# Altium integrated library Silicon Labs Clocks and Oscillators.IntLib: 678 symbols (part 25 of 45)
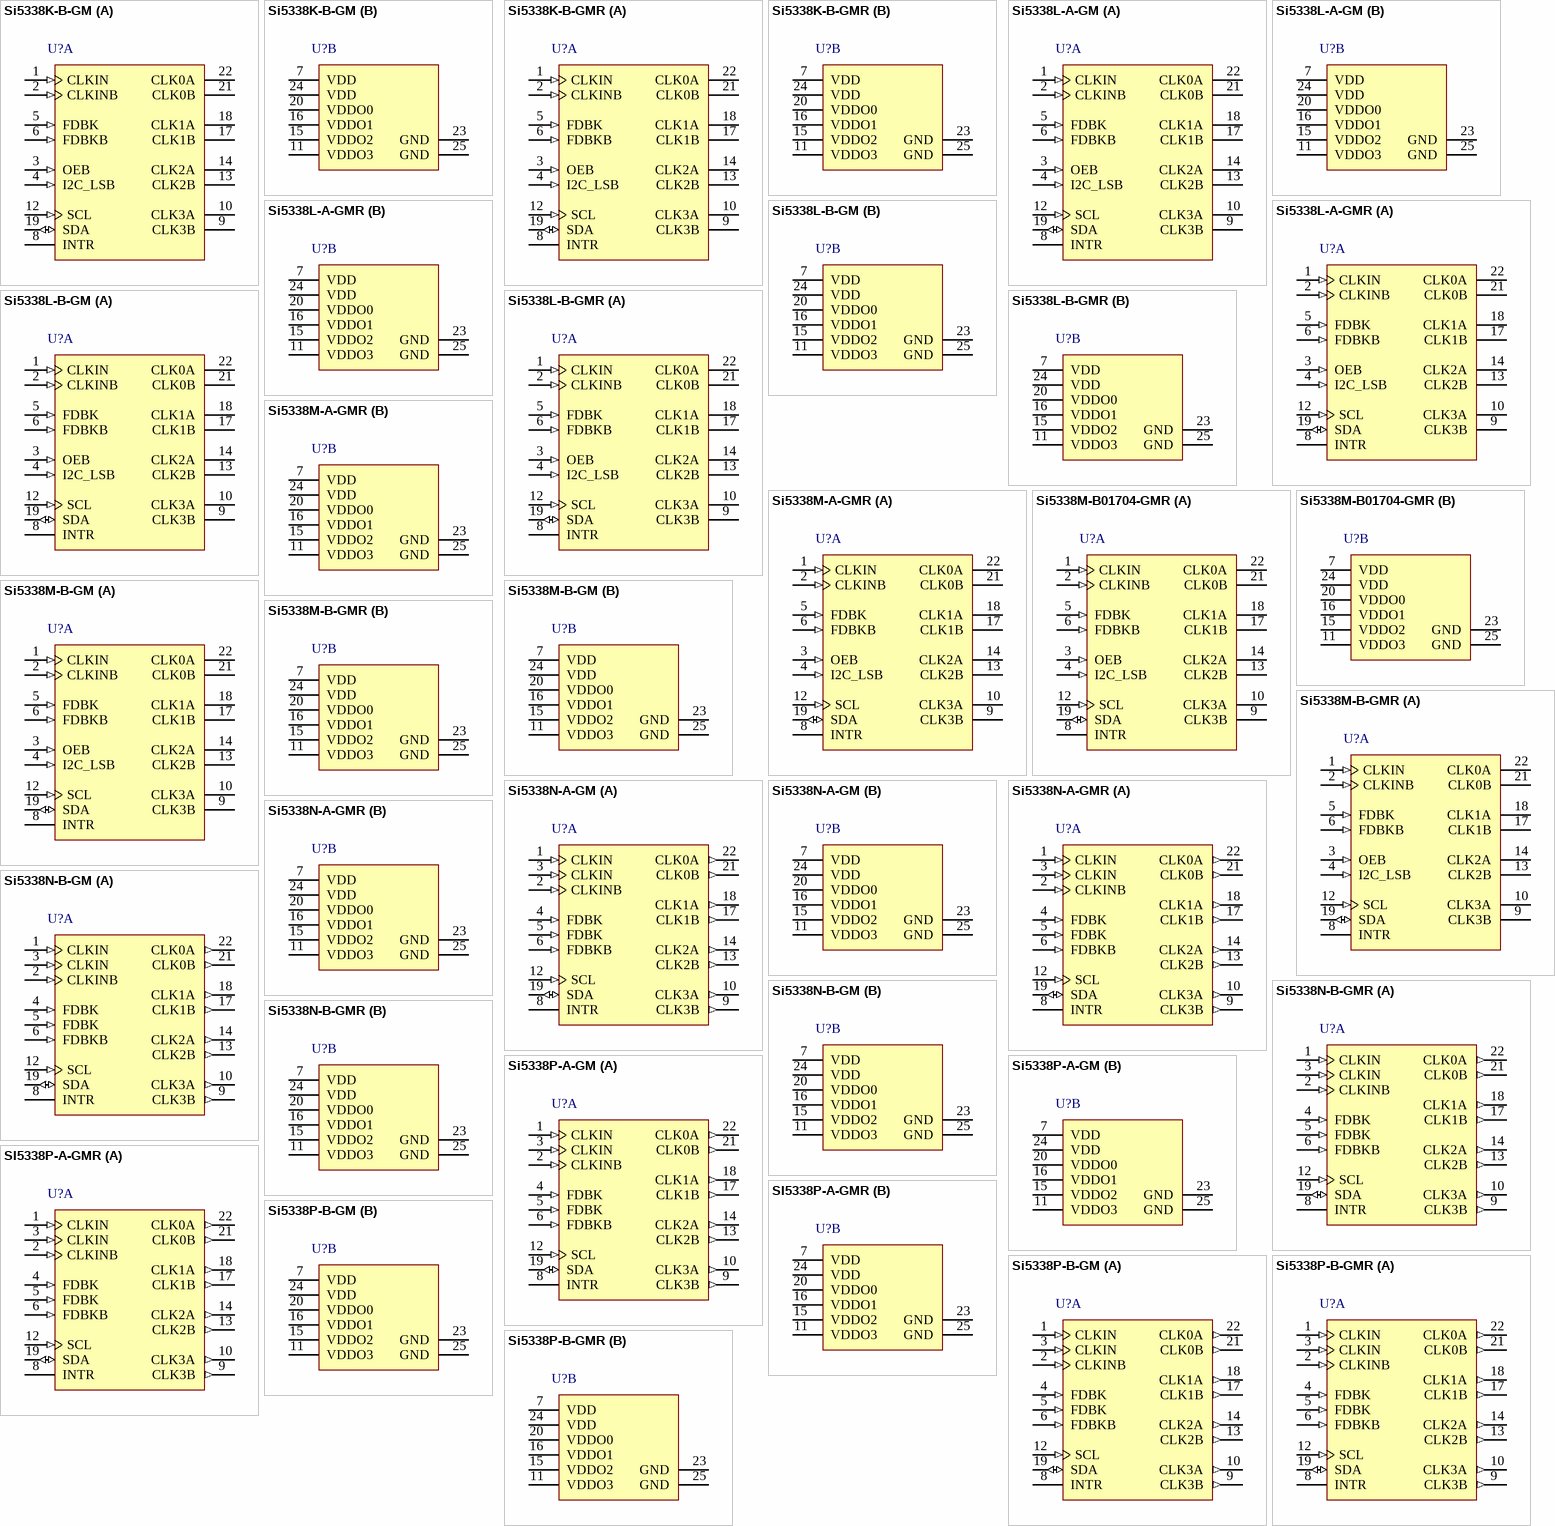
[diagram p68: symbols Si5338K-B-GM to Si5338P-B-GMR]

## Si5338P-B-GMR
designator U?
I2C-Programmable Any-Frequency, Any-Output Quad Clock Generator, 1.8 / 2.5 / 3.3 V, 0.16 to 350 MHz Output, -40 to 85 degC, 24-pin QFN, Tape and Reel; Manufacturer: Silicon Labs; PartNumber: Si5338P-B-GMR; Output Format: LVPECL; LVDS; LVCMOS; HCSL; SSTL; HSTL; Phase Jitter (RMS): 0.7 ps; Reference Inputs: 1; VDD: 1.8 V; 2.5 V; 3.3 V; Sub-Family: Clock Generators part2; DatasheetVersion: Rev. 1.3; PackageReference: QFN-24; PackageDescription: 24-Pin Quad-Flat No-Leads Package, Body 4 x 4 mm, Pitch 0.5 mm; Supplier 1: Digi-Key; Supplier Part Number 1: SI5338P-B-GMR-ND; Supplier 2: Mouser; Supplier Part Number 2: 634-SI5338P-B-GMR; Output Frequency (MHz): 0.16 to 350; Packing: Tape and Reel; Mounting Technology: Surface Mount; Code_JEDEC: MO-220; Code_IPC: J-STD-020; ComponentLink1Description: Manufacturer URL; ComponentLink1URL: http://www.silabs.com/; ComponentLink2Description: Datasheet; ComponentLink2URL: http://www.silabs.com/Support%20Documents/TechnicalDocs/Si5338.pdf; ComponentLink3Description: Package Specification; ComponentLink3URL: http://www.silabs.com/Support%20Documents/TechnicalDocs/Si5330.pdf
footprint SLAB-QFN-24-2500x2500TP_N (QFN, 24-Leads, Body 4x4mm, Pitch 0.5mm, Thermal Pad 2.5x2.5mm, IPC Medium Density)
footprint SLAB-QFN-24-2500x2500TP_L (QFN, 24-Leads, Body 4x4mm, Pitch 0.5mm, Thermal Pad 2.5x2.5mm, IPC High Density)
footprint SLAB-QFN-24-2500x2500TP_M (QFN, 24-Leads, Body 4x4mm, Pitch 0.5mm, Thermal Pad 2.5x2.5mm, IPC Low Density)
part A pins: 1 CLKIN (in) "These pins are used as the main differential clock input or as the XTAL input. See 3.2. Input Stage on page 18, Figure 3 and Figure 4, for connection details. Clock inputs to these pins must be ac-coupled. Keep the traces (See Datasheet)", 2 CLKINB (in) "These pins are used as the main differential clock input or as the XTAL input. See 3.2. Input Stage on page 18, Figure 3 and Figure 4, for connection details. Clock inputs to these pins must be ac-coupled. Keep the traces (See Datasheet)", 3 CLKIN (in) "CLKIN (for Si5338A/B/C and Si5338N/P/Q devices only) Provides a high-impedance clock input for single ended clock signals. This input should be dc-coupled as shown in “3.2. Input Stage”, Figure 3.", 4 FDBK (in) "FDBK (for Si5338N/P/Q devices only) Provides a high-impedance feedback input for single-ended clock signals. This input should be dc-coupled as shown in “3.2. Input Stage”, Figure 3. If this pin is not used, it should(See Datasheet)", 5 FDBK (in) "These pins can be used as a differential feedback input in zero delay mode or as a secondary clock input. See section 3.2, Figure 3, for termination details. See "3.10.6. Zero-Delay Mode" on page 27 for zero delay mode (See Datasheet)", 6 FDBKB (in) "These pins can be used as a differential feedback input in zero delay mode or as a secondary clock input. See section 3.2, Figure 3, for termination details. See "3.10.6. Zero-Delay Mode" on page 27 for zero delay mode (See Datasheet)", 8 INTR (oc) "Interrupt.", 9 CLK3B (out) "Output Clock B for Channel 3.", 10 CLK3A (out) "Output Clock A for Channel 3.", 12 SCL (in) "I2C Serial Clock Input", 13 CLK2B (out) "Output Clock B for Channel 2.", 14 CLK2A (out) "Output Clock A for Channel 2.", 17 CLK1B (out) "Output Clock B for Channel 1.", 18 CLK1A (out) "Output Clock A for Channel 1.", 19 SDA (io) "I2C Serial Data.", 21 CLK0B (out) "Output Clock B for Channel 0.", 22 CLK0A (out) "Output ClockA for Channel 0."
part B pins: 7 VDD (power) "Core Supply Voltage.", 11 VDDO3 (power) "Output Clock Supply Voltage.", 15 VDDO2 (power) "Output Clock Supply Voltage", 16 VDDO1 (power) "Output Clock Supply Voltage", 20 VDDO0 (power) "Output Clock Supply Voltage.", 23 GND (power) "Ground.", 24 VDD (power) "Core Supply Voltage.", 25 GND (power) "Ground Pad"

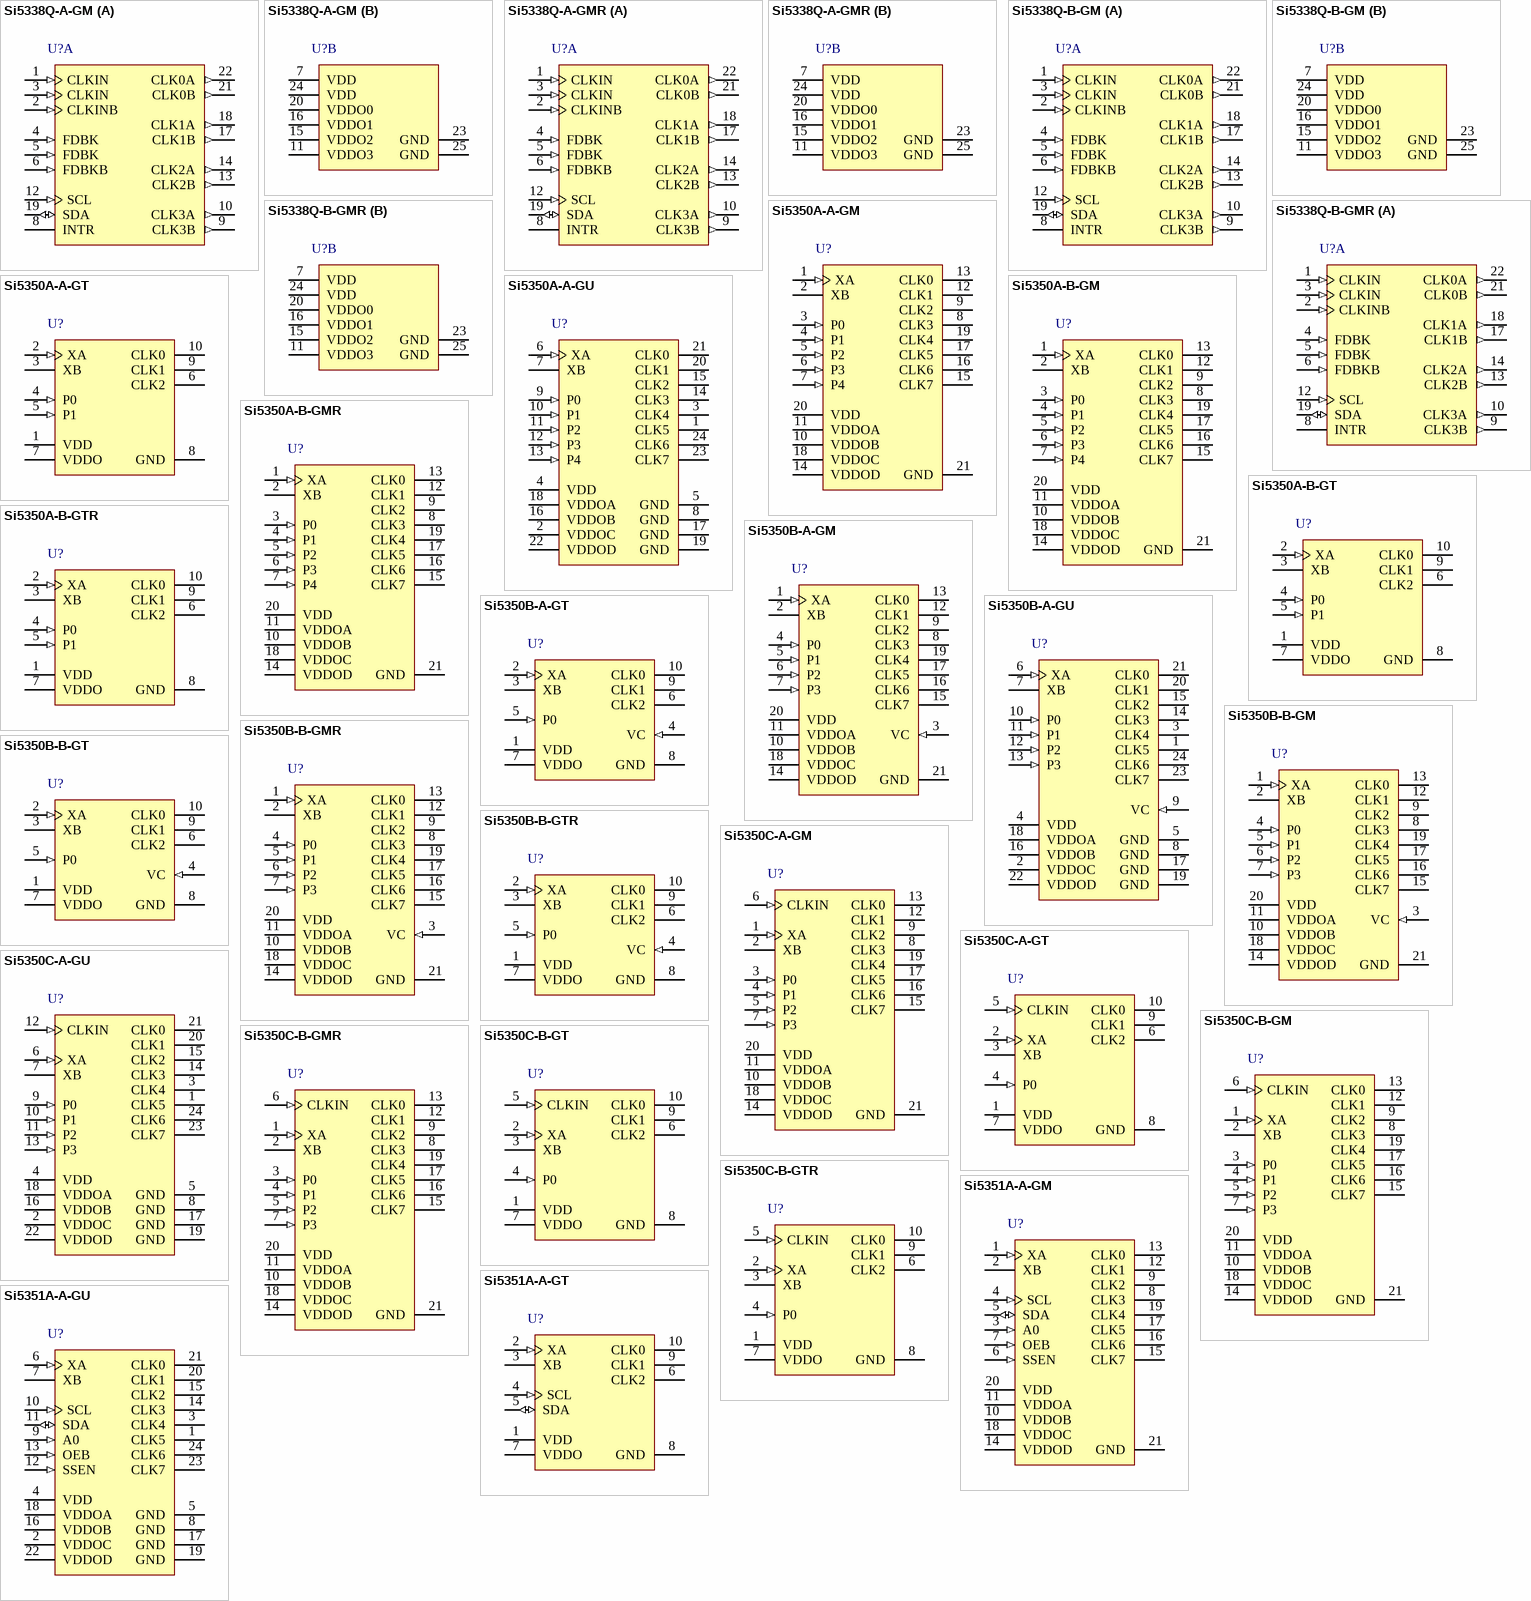
[diagram p25: symbols Si5338Q-A-GM to Si5351A-A-GU]

## Si5338Q-A-GM
designator U?
I2C-Programmable Any-Frequency, Any-Output Quad Clock Generator, 1.8 / 2.5 / 3.3 V, 0.16 to 200 MHz Output, -40 to 85 degC, 24-pin QFN; Manufacturer: Silicon Labs; PartNumber: Si5338Q-A-GM; Output Format: LVPECL; LVDS; LVCMOS; HCSL; SSTL; HSTL; Reference Inputs: 1; VDD: 1.8 V; 2.5 V; 3.3 V; Sub-Family: Clock Generators part2; DatasheetVersion: Rev. 1.3; PackageReference: QFN-24; PackageDescription: 24-Pin Quad-Flat No-Leads Package, Body 4 x 4 mm, Pitch 0.5 mm; Supplier 1: Digi-Key; Supplier Part Number 1: SI5338Q-A-GM-ND; Supplier 2: Mouser; Supplier Part Number 2: 634-SI5338Q-A-GM; Output Frequency (MHz): 0.16 to 200; Mounting Technology: Surface Mount; Code_JEDEC: MO-220; Code_IPC: J-STD-020; ComponentLink1Description: Manufacturer URL; ComponentLink1URL: http://www.silabs.com/; ComponentLink2Description: Datasheet; ComponentLink2URL: http://www.silabs.com/Support%20Documents/TechnicalDocs/Si5338.pdf; ComponentLink3Description: Package Specification; ComponentLink3URL: http://www.silabs.com/Support%20Documents/TechnicalDocs/Si5330.pdf
footprint SLAB-QFN-24-2500x2500TP_N (QFN, 24-Leads, Body 4x4mm, Pitch 0.5mm, Thermal Pad 2.5x2.5mm, IPC Medium Density)
footprint SLAB-QFN-24-2500x2500TP_L (QFN, 24-Leads, Body 4x4mm, Pitch 0.5mm, Thermal Pad 2.5x2.5mm, IPC High Density)
footprint SLAB-QFN-24-2500x2500TP_M (QFN, 24-Leads, Body 4x4mm, Pitch 0.5mm, Thermal Pad 2.5x2.5mm, IPC Low Density)
part A pins: 1 CLKIN (in) "These pins are used as the main differential clock input or as the XTAL input. See 3.2. Input Stage on page 18, Figure 3 and Figure 4, for connection details. Clock inputs to these pins must be ac-coupled. Keep the traces (See Datasheet)", 2 CLKINB (in) "These pins are used as the main differential clock input or as the XTAL input. See 3.2. Input Stage on page 18, Figure 3 and Figure 4, for connection details. Clock inputs to these pins must be ac-coupled. Keep the traces (See Datasheet)", 3 CLKIN (in) "CLKIN (for Si5338A/B/C and Si5338N/P/Q devices only) Provides a high-impedance clock input for single ended clock signals. This input should be dc-coupled as shown in “3.2. Input Stage”, Figure 3.", 4 FDBK (in) "FDBK (for Si5338N/P/Q devices only) Provides a high-impedance feedback input for single-ended clock signals. This input should be dc-coupled as shown in “3.2. Input Stage”, Figure 3. If this pin is not used, it should(See Datasheet)", 5 FDBK (in) "These pins can be used as a differential feedback input in zero delay mode or as a secondary clock input. See section 3.2, Figure 3, for termination details. See "3.10.6. Zero-Delay Mode" on page 27 for zero delay mode (See Datasheet)", 6 FDBKB (in) "These pins can be used as a differential feedback input in zero delay mode or as a secondary clock input. See section 3.2, Figure 3, for termination details. See "3.10.6. Zero-Delay Mode" on page 27 for zero delay mode (See Datasheet)", 8 INTR (oc) "Interrupt.", 9 CLK3B (out) "Output Clock B for Channel 3.", 10 CLK3A (out) "Output Clock A for Channel 3.", 12 SCL (in) "I2C Serial Clock Input", 13 CLK2B (out) "Output Clock B for Channel 2.", 14 CLK2A (out) "Output Clock A for Channel 2.", 17 CLK1B (out) "Output Clock B for Channel 1.", 18 CLK1A (out) "Output Clock A for Channel 1.", 19 SDA (io) "I2C Serial Data.", 21 CLK0B (out) "Output Clock B for Channel 0.", 22 CLK0A (out) "Output ClockA for Channel 0."
part B pins: 7 VDD (power) "Core Supply Voltage.", 11 VDDO3 (power) "Output Clock Supply Voltage.", 15 VDDO2 (power) "Output Clock Supply Voltage", 16 VDDO1 (power) "Output Clock Supply Voltage", 20 VDDO0 (power) "Output Clock Supply Voltage.", 23 GND (power) "Ground.", 24 VDD (power) "Core Supply Voltage.", 25 GND (power) "Ground Pad"

## Si5338Q-A-GMR
designator U?
I2C-Programmable Any-Frequency, Any-Output Quad Clock Generator, 1.8 / 2.5 / 3.3 V, 0.16 to 200 MHz Output, -40 to 85 degC, 24-pin QFN, Tape and Reel; Manufacturer: Silicon Labs; PartNumber: Si5338Q-A-GMR; Output Format: LVPECL; LVDS; LVCMOS; HCSL; SSTL; HSTL; Phase Jitter (RMS): 0.7 ps; Reference Inputs: 1; VDD: 1.8 V; 2.5 V; 3.3 V; Sub-Family: Clock Generators part2; DatasheetVersion: Rev. 1.3; PackageReference: QFN-24; PackageDescription: 24-Pin Quad-Flat No-Leads Package, Body 4 x 4 mm, Pitch 0.5 mm; Supplier 1: Mouser; Supplier Part Number 1: 634-SI5338Q-A-GMR; Output Frequency (MHz): 0.16 to 200; Packing: Tape and Reel; Mounting Technology: Surface Mount; Code_JEDEC: MO-220; Code_IPC: J-STD-020; ComponentLink1Description: Manufacturer URL; ComponentLink1URL: http://www.silabs.com/; ComponentLink2Description: Datasheet; ComponentLink2URL: http://www.silabs.com/Support%20Documents/TechnicalDocs/Si5338.pdf; ComponentLink3Description: Package Specification; ComponentLink3URL: http://www.silabs.com/Support%20Documents/TechnicalDocs/Si5330.pdf
footprint SLAB-QFN-24-2500x2500TP_N (QFN, 24-Leads, Body 4x4mm, Pitch 0.5mm, Thermal Pad 2.5x2.5mm, IPC Medium Density)
footprint SLAB-QFN-24-2500x2500TP_L (QFN, 24-Leads, Body 4x4mm, Pitch 0.5mm, Thermal Pad 2.5x2.5mm, IPC High Density)
footprint SLAB-QFN-24-2500x2500TP_M (QFN, 24-Leads, Body 4x4mm, Pitch 0.5mm, Thermal Pad 2.5x2.5mm, IPC Low Density)
part A pins: 1 CLKIN (in) "These pins are used as the main differential clock input or as the XTAL input. See 3.2. Input Stage on page 18, Figure 3 and Figure 4, for connection details. Clock inputs to these pins must be ac-coupled. Keep the traces (See Datasheet)", 2 CLKINB (in) "These pins are used as the main differential clock input or as the XTAL input. See 3.2. Input Stage on page 18, Figure 3 and Figure 4, for connection details. Clock inputs to these pins must be ac-coupled. Keep the traces (See Datasheet)", 3 CLKIN (in) "CLKIN (for Si5338A/B/C and Si5338N/P/Q devices only) Provides a high-impedance clock input for single ended clock signals. This input should be dc-coupled as shown in “3.2. Input Stage”, Figure 3.", 4 FDBK (in) "FDBK (for Si5338N/P/Q devices only) Provides a high-impedance feedback input for single-ended clock signals. This input should be dc-coupled as shown in “3.2. Input Stage”, Figure 3. If this pin is not used, it should(See Datasheet)", 5 FDBK (in) "These pins can be used as a differential feedback input in zero delay mode or as a secondary clock input. See section 3.2, Figure 3, for termination details. See "3.10.6. Zero-Delay Mode" on page 27 for zero delay mode (See Datasheet)", 6 FDBKB (in) "These pins can be used as a differential feedback input in zero delay mode or as a secondary clock input. See section 3.2, Figure 3, for termination details. See "3.10.6. Zero-Delay Mode" on page 27 for zero delay mode (See Datasheet)", 8 INTR (oc) "Interrupt.", 9 CLK3B (out) "Output Clock B for Channel 3.", 10 CLK3A (out) "Output Clock A for Channel 3.", 12 SCL (in) "I2C Serial Clock Input", 13 CLK2B (out) "Output Clock B for Channel 2.", 14 CLK2A (out) "Output Clock A for Channel 2.", 17 CLK1B (out) "Output Clock B for Channel 1.", 18 CLK1A (out) "Output Clock A for Channel 1.", 19 SDA (io) "I2C Serial Data.", 21 CLK0B (out) "Output Clock B for Channel 0.", 22 CLK0A (out) "Output ClockA for Channel 0."
part B pins: 7 VDD (power) "Core Supply Voltage.", 11 VDDO3 (power) "Output Clock Supply Voltage.", 15 VDDO2 (power) "Output Clock Supply Voltage", 16 VDDO1 (power) "Output Clock Supply Voltage", 20 VDDO0 (power) "Output Clock Supply Voltage.", 23 GND (power) "Ground.", 24 VDD (power) "Core Supply Voltage.", 25 GND (power) "Ground Pad"

## Si5338Q-B-GM
designator U?
I2C-Programmable Any-Frequency, Any-Output Quad Clock Generator, 1.8 / 2.5 / 3.3 V, 0.16 to 200 MHz Output, -40 to 85 degC, 24-pin QFN; Manufacturer: Silicon Labs; PartNumber: Si5338Q-B-GM; Output Format: LVPECL; LVDS; LVCMOS; HCSL; SSTL; HSTL; Reference Inputs: 1; VDD: 1.8 V; 2.5 V; 3.3 V; Sub-Family: Clock Generators part2; DatasheetVersion: Rev. 1.3; PackageReference: QFN-24; PackageDescription: 24-Pin Quad-Flat No-Leads Package, Body 4 x 4 mm, Pitch 0.5 mm; Supplier 1: Digi-Key; Supplier Part Number 1: SI5338Q-B-GM-ND; Supplier 2: Mouser; Supplier Part Number 2: 634-SI5338Q-B-GM; Output Frequency (MHz): 0.16 to 200; Mounting Technology: Surface Mount; Code_JEDEC: MO-220; Code_IPC: J-STD-020; ComponentLink1Description: Manufacturer URL; ComponentLink1URL: http://www.silabs.com/; ComponentLink2Description: Datasheet; ComponentLink2URL: http://www.silabs.com/Support%20Documents/TechnicalDocs/Si5338.pdf; ComponentLink3Description: Package Specification; ComponentLink3URL: http://www.silabs.com/Support%20Documents/TechnicalDocs/Si5330.pdf
footprint SLAB-QFN-24-2500x2500TP_N (QFN, 24-Leads, Body 4x4mm, Pitch 0.5mm, Thermal Pad 2.5x2.5mm, IPC Medium Density)
footprint SLAB-QFN-24-2500x2500TP_L (QFN, 24-Leads, Body 4x4mm, Pitch 0.5mm, Thermal Pad 2.5x2.5mm, IPC High Density)
footprint SLAB-QFN-24-2500x2500TP_M (QFN, 24-Leads, Body 4x4mm, Pitch 0.5mm, Thermal Pad 2.5x2.5mm, IPC Low Density)
part A pins: 1 CLKIN (in) "These pins are used as the main differential clock input or as the XTAL input. See 3.2. Input Stage on page 18, Figure 3 and Figure 4, for connection details. Clock inputs to these pins must be ac-coupled. Keep the traces (See Datasheet)", 2 CLKINB (in) "These pins are used as the main differential clock input or as the XTAL input. See 3.2. Input Stage on page 18, Figure 3 and Figure 4, for connection details. Clock inputs to these pins must be ac-coupled. Keep the traces (See Datasheet)", 3 CLKIN (in) "CLKIN (for Si5338A/B/C and Si5338N/P/Q devices only) Provides a high-impedance clock input for single ended clock signals. This input should be dc-coupled as shown in “3.2. Input Stage”, Figure 3.", 4 FDBK (in) "FDBK (for Si5338N/P/Q devices only) Provides a high-impedance feedback input for single-ended clock signals. This input should be dc-coupled as shown in “3.2. Input Stage”, Figure 3. If this pin is not used, it should(See Datasheet)", 5 FDBK (in) "These pins can be used as a differential feedback input in zero delay mode or as a secondary clock input. See section 3.2, Figure 3, for termination details. See "3.10.6. Zero-Delay Mode" on page 27 for zero delay mode (See Datasheet)", 6 FDBKB (in) "These pins can be used as a differential feedback input in zero delay mode or as a secondary clock input. See section 3.2, Figure 3, for termination details. See "3.10.6. Zero-Delay Mode" on page 27 for zero delay mode (See Datasheet)", 8 INTR (oc) "Interrupt.", 9 CLK3B (out) "Output Clock B for Channel 3.", 10 CLK3A (out) "Output Clock A for Channel 3.", 12 SCL (in) "I2C Serial Clock Input", 13 CLK2B (out) "Output Clock B for Channel 2.", 14 CLK2A (out) "Output Clock A for Channel 2.", 17 CLK1B (out) "Output Clock B for Channel 1.", 18 CLK1A (out) "Output Clock A for Channel 1.", 19 SDA (io) "I2C Serial Data.", 21 CLK0B (out) "Output Clock B for Channel 0.", 22 CLK0A (out) "Output ClockA for Channel 0."
part B pins: 7 VDD (power) "Core Supply Voltage.", 11 VDDO3 (power) "Output Clock Supply Voltage.", 15 VDDO2 (power) "Output Clock Supply Voltage", 16 VDDO1 (power) "Output Clock Supply Voltage", 20 VDDO0 (power) "Output Clock Supply Voltage.", 23 GND (power) "Ground.", 24 VDD (power) "Core Supply Voltage.", 25 GND (power) "Ground Pad"

## Si5338Q-B-GMR
designator U?
I2C-Programmable Any-Frequency, Any-Output Quad Clock Generator, 1.8 / 2.5 / 3.3 V, 0.16 to 200 MHz Output, -40 to 85 degC, 24-pin QFN, Tape and Reel; Manufacturer: Silicon Labs; PartNumber: Si5338Q-B-GMR; Output Format: LVPECL; LVDS; LVCMOS; HCSL; SSTL; HSTL; Phase Jitter (RMS): 0.7 ps; Reference Inputs: 1; VDD: 1.8 V; 2.5 V; 3.3 V; Sub-Family: Clock Generators part2; DatasheetVersion: Rev. 1.3; PackageReference: QFN-24; PackageDescription: 24-Pin Quad-Flat No-Leads Package, Body 4 x 4 mm, Pitch 0.5 mm; Supplier 1: Digi-Key; Supplier Part Number 1: SI5338Q-B-GMR-ND; Supplier 2: Mouser; Supplier Part Number 2: 634-SI5338Q-B-GMR; Output Frequency (MHz): 0.16 to 200; Packing: Tape and Reel; Mounting Technology: Surface Mount; Code_JEDEC: MO-220; Code_IPC: J-STD-020; ComponentLink1Description: Manufacturer URL; ComponentLink1URL: http://www.silabs.com/; ComponentLink2Description: Datasheet; ComponentLink2URL: http://www.silabs.com/Support%20Documents/TechnicalDocs/Si5338.pdf; ComponentLink3Description: Package Specification; ComponentLink3URL: http://www.silabs.com/Support%20Documents/TechnicalDocs/Si5330.pdf
footprint SLAB-QFN-24-2500x2500TP_N (QFN, 24-Leads, Body 4x4mm, Pitch 0.5mm, Thermal Pad 2.5x2.5mm, IPC Medium Density)
footprint SLAB-QFN-24-2500x2500TP_L (QFN, 24-Leads, Body 4x4mm, Pitch 0.5mm, Thermal Pad 2.5x2.5mm, IPC High Density)
footprint SLAB-QFN-24-2500x2500TP_M (QFN, 24-Leads, Body 4x4mm, Pitch 0.5mm, Thermal Pad 2.5x2.5mm, IPC Low Density)
part A pins: 1 CLKIN (in) "These pins are used as the main differential clock input or as the XTAL input. See 3.2. Input Stage on page 18, Figure 3 and Figure 4, for connection details. Clock inputs to these pins must be ac-coupled. Keep the traces (See Datasheet)", 2 CLKINB (in) "These pins are used as the main differential clock input or as the XTAL input. See 3.2. Input Stage on page 18, Figure 3 and Figure 4, for connection details. Clock inputs to these pins must be ac-coupled. Keep the traces (See Datasheet)", 3 CLKIN (in) "CLKIN (for Si5338A/B/C and Si5338N/P/Q devices only) Provides a high-impedance clock input for single ended clock signals. This input should be dc-coupled as shown in “3.2. Input Stage”, Figure 3.", 4 FDBK (in) "FDBK (for Si5338N/P/Q devices only) Provides a high-impedance feedback input for single-ended clock signals. This input should be dc-coupled as shown in “3.2. Input Stage”, Figure 3. If this pin is not used, it should(See Datasheet)", 5 FDBK (in) "These pins can be used as a differential feedback input in zero delay mode or as a secondary clock input. See section 3.2, Figure 3, for termination details. See "3.10.6. Zero-Delay Mode" on page 27 for zero delay mode (See Datasheet)", 6 FDBKB (in) "These pins can be used as a differential feedback input in zero delay mode or as a secondary clock input. See section 3.2, Figure 3, for termination details. See "3.10.6. Zero-Delay Mode" on page 27 for zero delay mode (See Datasheet)", 8 INTR (oc) "Interrupt.", 9 CLK3B (out) "Output Clock B for Channel 3.", 10 CLK3A (out) "Output Clock A for Channel 3.", 12 SCL (in) "I2C Serial Clock Input", 13 CLK2B (out) "Output Clock B for Channel 2.", 14 CLK2A (out) "Output Clock A for Channel 2.", 17 CLK1B (out) "Output Clock B for Channel 1.", 18 CLK1A (out) "Output Clock A for Channel 1.", 19 SDA (io) "I2C Serial Data.", 21 CLK0B (out) "Output Clock B for Channel 0.", 22 CLK0A (out) "Output ClockA for Channel 0."
part B pins: 7 VDD (power) "Core Supply Voltage.", 11 VDDO3 (power) "Output Clock Supply Voltage.", 15 VDDO2 (power) "Output Clock Supply Voltage", 16 VDDO1 (power) "Output Clock Supply Voltage", 20 VDDO0 (power) "Output Clock Supply Voltage.", 23 GND (power) "Ground.", 24 VDD (power) "Core Supply Voltage.", 25 GND (power) "Ground Pad"

## Si5350A-A-GM
designator U?
Factory-Programmable Any-Frequency CMOS Clock Generator, 2.5 / 3.3 V, 0.008 to 160 MHz Output, -40 to 85 degC, 20-pin QFN; Manufacturer: Silicon Labs; PartNumber: Si5350A-A-GM; Output Format: LVCMOS; Reference Inputs: 1; VDD: 2.5 V; 3.3 V; Sub-Family: Clock Generators; DatasheetVersion: Rev. 0.9; PackageReference: QFN-20; PackageDescription: 20-Pin Quad-Flat No-Leads Package, Body 4 x 4 mm, Pitch 0.5 mm; Supplier 1: Digi-Key; Supplier Part Number 1: SI5350A-A-GM-ND; Supplier 2: Mouser; Supplier Part Number 2: 634-SI5350A-A-GM; Output Frequency (MHz): 0.008 to 160; Mounting Technology: Surface Mount; Code_JEDEC: MO-220; Code_IPC: J-STD-020; ComponentLink1Description: Manufacturer URL; ComponentLink1URL: http://www.silabs.com/; ComponentLink2Description: Datasheet; ComponentLink2URL: http://www.silabs.com/Support%20Documents/TechnicalDocs/Si5350A.pdf; ComponentLink3Description: Package Specification; ComponentLink3URL: http://www.silabs.com/Support%20Documents/TechnicalDocs/Si5351.pdf
footprint SLAB-QFN-20-2700x2700TP_A_N (QFN, 20-Leads, Body 4x4mm, Pitch 0.5mm, Thermal Pad 2.7x2.7mm, IPC Medium Density)
footprint SLAB-QFN-20-2700x2700TP_A_L (QFN, 20-Leads, Body 4x4mm, Pitch 0.5mm, Thermal Pad 2.7x2.7mm, IPC High Density)
footprint SLAB-QFN-20-2700x2700TP_A_M (QFN, 20-Leads, Body 4x4mm, Pitch 0.5mm, Thermal Pad 2.7x2.7mm, IPC Low Density)
pins: 1 XA (in) "Input pin for external XTAL", 2 XB "Input pin for external XTAL", 3 P0 (in) "User configurable input pin 0. See 4.4.5.", 4 P1 (in) "User configurable input pin 1. See 4.4.5.", 5 P2 (in) "User configurable input pin 2. See 4.4.5.", 6 P3 (in) "User configurable input pin 3. See 4.4.5.", 7 P4 (in) "User configurable input pin 4. See 4.4.5.", 8 CLK3 (hiz) "Output clock 3", 9 CLK2 (hiz) "Output clock 2", 10 VDDOB (power) "Output voltage supply pin for CLK2 and CLK3. See 4.4.2", 11 VDDOA (power) "Output voltage supply pin for CLK0 and CLK1. See 4.4.2", 12 CLK1 (hiz) "Output clock 1", 13 CLK0 (hiz) "Output clock 0", 14 VDDOD (power) "Output voltage supply pin for CLK6 and CLK7. See 4.4.2", 15 CLK7 (hiz) "Output clock 7", 16 CLK6 (hiz) "Output clock 6", 17 CLK5 (hiz) "Output clock 5", 18 VDDOC (power) "Output voltage supply pin for CLK4 and CLK5. See 4.4.2", 19 CLK4 (hiz) "Output clock 4", 20 VDD (power) "Core voltage supply pin. See 4.4.2", 21 GND (power) "Ground"

## Si5350A-A-GT
designator U?
Factory-Programmable Any-Frequency CMOS Clock Generator, 2.5 / 3.3 V, 0.008 to 160 MHz Output, -40 to 85 degC, 10-pin SOP; Manufacturer: Silicon Labs; PartNumber: Si5350A-A-GT; Output Format: LVCMOS; Reference Inputs: 1; VDD: 2.5 V; 3.3 V; Sub-Family: Clock Generators; DatasheetVersion: Rev. 0.9; PackageReference: MSOP-10; PackageDescription: 10-Pin Mini Small Outline Package, Body 3 x 3 mm, Pitch 0.5 mm; Supplier 1: Digi-Key; Supplier Part Number 1: SI5350A-A-GT-ND; Supplier 2: Mouser; Supplier Part Number 2: 634-SI5350A-A-GT; Output Frequency (MHz): 0.008 to 160; Mounting Technology: Surface Mount; Code_JEDEC: MO-187; Code_IPC: J-STD-020; ComponentLink1Description: Manufacturer URL; ComponentLink1URL: http://www.silabs.com/; ComponentLink2Description: Datasheet; ComponentLink2URL: http://www.silabs.com/Support%20Documents/TechnicalDocs/Si5350A.pdf; ComponentLink3Description: Package Specification; ComponentLink3URL: http://www.silabs.com/Support Documents/TechnicalDocs/C8051T60x.pdf
footprint SLAB-MSOP-10_N (SOP, 10-Leads, Body 3x3mm, Pitch 0.5mm, IPC Medium Density)
footprint SLAB-MSOP-10_L (SOP, 10-Leads, Body 3x3mm, Pitch 0.5mm, IPC High Density)
footprint SLAB-MSOP-10_M (SOP, 10-Leads, Body 3x3mm, Pitch 0.5mm, IPC Low Density)
pins: 1 VDD (power) "Core voltage supply pin. See 4.4.2", 2 XA (in) "Input pin for external XTAL", 3 XB "Input pin for external XTAL", 4 P0 (in) "User configurable input pin 0", 5 P1 (in) "User configurable input pin 1", 6 CLK2 (hiz) "Output clock 2", 7 VDDO (power) "Output clock voltage supply pin for CLK0, CLK1, and CLK2. See 4.4.2", 8 GND (power) "Ground", 9 CLK1 (hiz) "Output clock 1", 10 CLK0 (hiz) "Output clock 0"

## Si5350A-A-GU
designator U?
Factory-Programmable Any-Frequency CMOS Clock Generator, 2.5 / 3.3 V, 0.008 to 160 MHz Output, -40 to 85 degC, 20-pin SOP; Manufacturer: Silicon Labs; PartNumber: Si5350A-A-GU; Output Format: LVCMOS; Reference Inputs: 1; VDD: 2.5 V; 3.3 V; Sub-Family: Clock Generators; DatasheetVersion: Rev. 0.9; PackageReference: QSOP-24; PackageDescription: 24-Pin Quarter-Size Small-Outline Package, Body 8.65 x 3.9 mm, Pitch 0.635 mm; Supplier 1: Digi-Key; Supplier Part Number 1: SI5350A-A-GU-ND; Supplier 2: Mouser; Supplier Part Number 2: 634-SI5350A-A-GU; Output Frequency (MHz): 0.008 to 160; Mounting Technology: Surface Mount; Code_JEDEC: MO-147; Code_IPC: J-STD-020; ComponentLink1Description: Manufacturer URL; ComponentLink1URL: http://www.silabs.com/; ComponentLink2Description: Datasheet; ComponentLink2URL: http://www.silabs.com/Support%20Documents/TechnicalDocs/Si5350A.pdf; ComponentLink3Description: Package Specification; ComponentLink3URL: http://www.silabs.com/Support%20Documents/TechnicalDocs/C8051F99x.pdf
footprint SLAB-QSOP-24_N (SOP, 24-Leads, Body 8.65x3.9mm, Pitch 0.635mm, IPC Medium Density)
footprint SLAB-QSOP-24_L (SOP, 24-Leads, Body 8.65x3.9mm, Pitch 0.635mm, IPC High Density)
footprint SLAB-QSOP-24_M (SOP, 24-Leads, Body 8.65x3.9mm, Pitch 0.635mm, IPC Low Density)
pins: 1 CLK5 (hiz) "Output clock 5", 2 VDDOC (power) "Output voltage supply pin for CLK4 and CLK5. See 4.4.2", 3 CLK4 (hiz) "Output clock 4", 4 VDD (power) "Core voltage supply pin. See 4.4.2", 5 GND (power) "Ground", 6 XA (in) "Input pin for external XTAL", 7 XB "Input pin for external XTAL", 8 GND (power) "Ground", 9 P0 (in) "User configurable input pin 0. See 4.4.5.", 10 P1 (in) "User configurable input pin 1. See 4.4.5.", 11 P2 (in) "User configurable input pin 2. See 4.4.5.", 12 P3 (in) "User configurable input pin 3. See 4.4.5.", 13 P4 (in) "User configurable input pin 4. See 4.4.5.", 14 CLK3 (hiz) "Output clock 3", 15 CLK2 (hiz) "Output clock 2", 16 VDDOB (power) "Output voltage supply pin for CLK2 and CLK3. See 4.4.2", 17 GND (power) "Ground", 18 VDDOA (power) "Output voltage supply pin for CLK0 and CLK1. See 4.4.2", 19 GND (power) "Ground", 20 CLK1 (hiz) "Output clock 1", 21 CLK0 (hiz) "Output clock 0", 22 VDDOD (power) "Output voltage supply pin for CLK6 and CLK7. See 4.4.2", 23 CLK7 (hiz) "Output clock 7", 24 CLK6 (hiz) "Output clock 6"

## Si5350A-B-GM
designator U?
Web-Customizable Any-Frequency CMOS Clock Generator, 2.5 / 3.3 V, 0.008 to 160 MHz Output, -40 to 85 degC, 20-pin QFN; Manufacturer: Silicon Labs; PartNumber: Si5350A-B-GM; Output Format: LVCMOS; Reference Inputs: 1; VDD: 2.5 V; 3.3 V; Sub-Family: Clock Generators; DatasheetVersion: Rev. 0.75; PackageReference: QFN-20; PackageDescription: 20-Pin Quad-Flat No-Leads Package, Body 4 x 4 mm, Pitch 0.5 mm; Output Frequency (MHz): 0.008 to 160; Mounting Technology: Surface Mount; Code_JEDEC: MO-220; Code_IPC: J-STD-020; ComponentLink1Description: Manufacturer URL; ComponentLink1URL: http://www.silabs.com/; ComponentLink2Description: Datasheet; ComponentLink2URL: http://www.silabs.com/Support%20Documents/TechnicalDocs/Si5350A-B.pdf; ComponentLink3Description: Package Specification; ComponentLink3URL: http://www.silabs.com/Support%20Documents/TechnicalDocs/Si5351.pdf
footprint SLAB-QFN-20-2700x2700TP_A_N (QFN, 20-Leads, Body 4x4mm, Pitch 0.5mm, Thermal Pad 2.7x2.7mm, IPC Medium Density)
footprint SLAB-QFN-20-2700x2700TP_A_L (QFN, 20-Leads, Body 4x4mm, Pitch 0.5mm, Thermal Pad 2.7x2.7mm, IPC High Density)
footprint SLAB-QFN-20-2700x2700TP_A_M (QFN, 20-Leads, Body 4x4mm, Pitch 0.5mm, Thermal Pad 2.7x2.7mm, IPC Low Density)
pins: 1 XA (in) "Input pin for external XTAL", 2 XB "Input pin for external XTAL", 3 P0 (in) "User configurable input pin 0. See 4.4.5.", 4 P1 (in) "User configurable input pin 1. See 4.4.5.", 5 P2 (in) "User configurable input pin 2. See 4.4.5.", 6 P3 (in) "User configurable input pin 3. See 4.4.5.", 7 P4 (in) "User configurable input pin 4. See 4.4.5.", 8 CLK3 (hiz) "Output clock 3", 9 CLK2 (hiz) "Output clock 2", 10 VDDOB (power) "Output voltage supply pin for CLK2 and CLK3. See 4.4.2", 11 VDDOA (power) "Output voltage supply pin for CLK0 and CLK1. See 4.4.2", 12 CLK1 (hiz) "Output clock 1", 13 CLK0 (hiz) "Output clock 0", 14 VDDOD (power) "Output voltage supply pin for CLK6 and CLK7. See 4.4.2", 15 CLK7 (hiz) "Output clock 7", 16 CLK6 (hiz) "Output clock 6", 17 CLK5 (hiz) "Output clock 5", 18 VDDOC (power) "Output voltage supply pin for CLK4 and CLK5. See 4.4.2", 19 CLK4 (hiz) "Output clock 4", 20 VDD (power) "Core voltage supply pin. See 4.4.2", 21 GND (power) "Ground"

## Si5350A-B-GMR
designator U?
Web-Customizable Any-Frequency CMOS Clock Generator, 2.5 / 3.3 V, 0.008 to 160 MHz Output, -40 to 85 degC, 20-pin QFN, Tape and Reel; Manufacturer: Silicon Labs; PartNumber: Si5350A-B-GMR; Output Format: LVCMOS; Phase Jitter (RMS): 100 ps; Reference Inputs: 1; VDD: 2.5 V; 3.3 V; Sub-Family: Clock Generators; DatasheetVersion: Rev. 0.75; PackageReference: QFN-20; PackageDescription: 20-Pin Quad-Flat No-Leads Package, Body 4 x 4 mm, Pitch 0.5 mm; Output Frequency (MHz): 0.008 to 160; Packing: Tape and Reel; Mounting Technology: Surface Mount; Code_JEDEC: MO-220; Code_IPC: J-STD-020; ComponentLink1Description: Manufacturer URL; ComponentLink1URL: http://www.silabs.com/; ComponentLink2Description: Datasheet; ComponentLink2URL: http://www.silabs.com/Support%20Documents/TechnicalDocs/Si5350A-B.pdf; ComponentLink3Description: Package Specification; ComponentLink3URL: http://www.silabs.com/Support%20Documents/TechnicalDocs/Si5351.pdf
footprint SLAB-QFN-20-2700x2700TP_A_N (QFN, 20-Leads, Body 4x4mm, Pitch 0.5mm, Thermal Pad 2.7x2.7mm, IPC Medium Density)
footprint SLAB-QFN-20-2700x2700TP_A_L (QFN, 20-Leads, Body 4x4mm, Pitch 0.5mm, Thermal Pad 2.7x2.7mm, IPC High Density)
footprint SLAB-QFN-20-2700x2700TP_A_M (QFN, 20-Leads, Body 4x4mm, Pitch 0.5mm, Thermal Pad 2.7x2.7mm, IPC Low Density)
pins: 1 XA (in) "Input pin for external XTAL", 2 XB "Input pin for external XTAL", 3 P0 (in) "User configurable input pin 0. See 4.4.5.", 4 P1 (in) "User configurable input pin 1. See 4.4.5.", 5 P2 (in) "User configurable input pin 2. See 4.4.5.", 6 P3 (in) "User configurable input pin 3. See 4.4.5.", 7 P4 (in) "User configurable input pin 4. See 4.4.5.", 8 CLK3 (hiz) "Output clock 3", 9 CLK2 (hiz) "Output clock 2", 10 VDDOB (power) "Output voltage supply pin for CLK2 and CLK3. See 4.4.2", 11 VDDOA (power) "Output voltage supply pin for CLK0 and CLK1. See 4.4.2", 12 CLK1 (hiz) "Output clock 1", 13 CLK0 (hiz) "Output clock 0", 14 VDDOD (power) "Output voltage supply pin for CLK6 and CLK7. See 4.4.2", 15 CLK7 (hiz) "Output clock 7", 16 CLK6 (hiz) "Output clock 6", 17 CLK5 (hiz) "Output clock 5", 18 VDDOC (power) "Output voltage supply pin for CLK4 and CLK5. See 4.4.2", 19 CLK4 (hiz) "Output clock 4", 20 VDD (power) "Core voltage supply pin. See 4.4.2", 21 GND (power) "Ground"

## Si5350A-B-GT
designator U?
Web-Customizable Any-Frequency CMOS Clock Generator, 2.5 / 3.3 V, 0.008 to 160 MHz Output, -40 to 85 degC, 10-pin SOP; Manufacturer: Silicon Labs; PartNumber: Si5350A-B-GT; Output Format: LVCMOS; Reference Inputs: 1; VDD: 2.5 V; 3.3 V; Sub-Family: Clock Generators; DatasheetVersion: Rev. 0.75; PackageReference: MSOP-10; PackageDescription: 10-Pin Mini Small Outline Package, Body 3 x 3 mm, Pitch 0.5 mm; Output Frequency (MHz): 0.008 to 160; Mounting Technology: Surface Mount; Code_JEDEC: MO-187; Code_IPC: J-STD-020; ComponentLink1Description: Manufacturer URL; ComponentLink1URL: http://www.silabs.com/; ComponentLink2Description: Datasheet; ComponentLink2URL: http://www.silabs.com/Support%20Documents/TechnicalDocs/Si5350A-B.pdf; ComponentLink3Description: Package Specification; ComponentLink3URL: http://www.silabs.com/Support Documents/TechnicalDocs/C8051T60x.pdf
footprint SLAB-MSOP-10_N (SOP, 10-Leads, Body 3x3mm, Pitch 0.5mm, IPC Medium Density)
footprint SLAB-MSOP-10_L (SOP, 10-Leads, Body 3x3mm, Pitch 0.5mm, IPC High Density)
footprint SLAB-MSOP-10_M (SOP, 10-Leads, Body 3x3mm, Pitch 0.5mm, IPC Low Density)
pins: 1 VDD (power) "Core voltage supply pin. See 4.4.2", 2 XA (in) "Input pin for external XTAL", 3 XB "Input pin for external XTAL", 4 P0 (in) "User configurable input pin 0", 5 P1 (in) "User configurable input pin 1", 6 CLK2 (hiz) "Output clock 2", 7 VDDO (power) "Output clock voltage supply pin for CLK0, CLK1, and CLK2. See 4.4.2", 8 GND (power) "Ground", 9 CLK1 (hiz) "Output clock 1", 10 CLK0 (hiz) "Output clock 0"

## Si5350A-B-GTR
designator U?
Web-Customizable Any-Frequency CMOS Clock Generator, 2.5 / 3.3 V, 0.008 to 160 MHz Output, -40 to 85 degC, 10-pin SOP, Tape and Reel; Manufacturer: Silicon Labs; PartNumber: Si5350A-B-GTR; Output Format: LVCMOS; Phase Jitter (RMS): 100 ps; Reference Inputs: 1; VDD: 2.5 V; 3.3 V; Sub-Family: Clock Generators; DatasheetVersion: Rev. 0.75; PackageReference: MSOP-10; PackageDescription: 10-Pin Mini Small Outline Package, Body 3 x 3 mm, Pitch 0.5 mm; Output Frequency (MHz): 0.008 to 160; Packing: Tape and Reel; Mounting Technology: Surface Mount; Code_JEDEC: MO-187; Code_IPC: J-STD-020; ComponentLink1Description: Manufacturer URL; ComponentLink1URL: http://www.silabs.com/; ComponentLink2Description: Datasheet; ComponentLink2URL: http://www.silabs.com/Support%20Documents/TechnicalDocs/Si5350A-B.pdf; ComponentLink3Description: Package Specification; ComponentLink3URL: http://www.silabs.com/Support Documents/TechnicalDocs/C8051T60x.pdf
footprint SLAB-MSOP-10_N (SOP, 10-Leads, Body 3x3mm, Pitch 0.5mm, IPC Medium Density)
footprint SLAB-MSOP-10_L (SOP, 10-Leads, Body 3x3mm, Pitch 0.5mm, IPC High Density)
footprint SLAB-MSOP-10_M (SOP, 10-Leads, Body 3x3mm, Pitch 0.5mm, IPC Low Density)
pins: 1 VDD (power) "Core voltage supply pin. See 4.4.2", 2 XA (in) "Input pin for external XTAL", 3 XB "Input pin for external XTAL", 4 P0 (in) "User configurable input pin 0", 5 P1 (in) "User configurable input pin 1", 6 CLK2 (hiz) "Output clock 2", 7 VDDO (power) "Output clock voltage supply pin for CLK0, CLK1, and CLK2. See 4.4.2", 8 GND (power) "Ground", 9 CLK1 (hiz) "Output clock 1", 10 CLK0 (hiz) "Output clock 0"

## Si5350B-A-GM
designator U?
Factory-Programmable Any-Frequency CMOS Clock Generator, 2.5 / 3.3 V, 0.008 to 160 MHz Output, -40 to 85 degC, 20-pin QFN; Manufacturer: Silicon Labs; PartNumber: Si5350B-A-GM; Output Format: LVCMOS; Reference Inputs: 1; VDD: 2.5 V; 3.3 V; Sub-Family: Clock Generators; DatasheetVersion: Rev. 0.9; PackageReference: QFN-20; PackageDescription: 20-Pin Quad-Flat No-Leads Package, Body 4 x 4 mm, Pitch 0.5 mm; Supplier 1: Digi-Key; Supplier Part Number 1: SI5350B-A-GM-ND; Supplier 2: Mouser; Supplier Part Number 2: 634-SI5350B-A-GM; Output Frequency (MHz): 0.008 to 160; Mounting Technology: Surface Mount; Code_JEDEC: MO-220; Code_IPC: J-STD-020; ComponentLink1Description: Manufacturer URL; ComponentLink1URL: http://www.silabs.com/; ComponentLink2Description: Datasheet; ComponentLink2URL: http://www.silabs.com/Support%20Documents/TechnicalDocs/Si5350A.pdf; ComponentLink3Description: Package Specification; ComponentLink3URL: http://www.silabs.com/Support%20Documents/TechnicalDocs/Si5351.pdf
footprint SLAB-QFN-20-2700x2700TP_A_N (QFN, 20-Leads, Body 4x4mm, Pitch 0.5mm, Thermal Pad 2.7x2.7mm, IPC Medium Density)
footprint SLAB-QFN-20-2700x2700TP_A_L (QFN, 20-Leads, Body 4x4mm, Pitch 0.5mm, Thermal Pad 2.7x2.7mm, IPC High Density)
footprint SLAB-QFN-20-2700x2700TP_A_M (QFN, 20-Leads, Body 4x4mm, Pitch 0.5mm, Thermal Pad 2.7x2.7mm, IPC Low Density)
pins: 1 XA (in) "Input pin for external XTAL", 2 XB "Input pin for external XTAL", 3 VC (in) "VCXO control voltage input", 4 P0 (in) "User configurable input pin 0", 5 P1 (in) "User configurable input pin 1", 6 P2 (in) "User configurable input pin 2", 7 P3 (in) "User configurable input pin 3", 8 CLK3 (hiz) "Output clock 3", 9 CLK2 (hiz) "Output clock 2", 10 VDDOB (power) "Output voltage supply pin for CLK2 and CLK3", 11 VDDOA (power) "Output voltage supply pin for CLK0 and CLK1", 12 CLK1 (hiz) "Output clock 1", 13 CLK0 (hiz) "Output clock 0", 14 VDDOD (power) "Output voltage supply pin for CLK6 and CLK7", 15 CLK7 (hiz) "Output clock 7", 16 CLK6 (hiz) "Output clock 6", 17 CLK5 (hiz) "Output clock 5", 18 VDDOC (power) "Output voltage supply pin for CLK4 and CLK5", 19 CLK4 (hiz) "Output clock 4", 20 VDD (power) "Core voltage supply pin", 21 GND (power) "Ground"

## Si5350B-A-GT
designator U?
Factory-Programmable Any-Frequency CMOS Clock Generator, 2.5 / 3.3 V, 0.008 to 160 MHz Output, -40 to 85 degC, 10-pin SOP; Manufacturer: Silicon Labs; PartNumber: Si5350B-A-GT; Output Format: LVCMOS; Reference Inputs: 1; VDD: 2.5 V; 3.3 V; Sub-Family: Clock Generators; DatasheetVersion: Rev. 0.9; PackageReference: MSOP-10; PackageDescription: 10-Pin Mini Small Outline Package, Body 3 x 3 mm, Pitch 0.5 mm; Supplier 1: Digi-Key; Supplier Part Number 1: SI5350B-A-GT-ND; Supplier 2: Mouser; Supplier Part Number 2: 634-SI5350B-A-GT; Output Frequency (MHz): 0.008 to 160; Mounting Technology: Surface Mount; Code_JEDEC: MO-187; Code_IPC: J-STD-020; ComponentLink1Description: Manufacturer URL; ComponentLink1URL: http://www.silabs.com/; ComponentLink2Description: Datasheet; ComponentLink2URL: http://www.silabs.com/Support%20Documents/TechnicalDocs/Si5350A.pdf; ComponentLink3Description: Package Specification; ComponentLink3URL: http://www.silabs.com/Support Documents/TechnicalDocs/C8051T60x.pdf
footprint SLAB-MSOP-10_N (SOP, 10-Leads, Body 3x3mm, Pitch 0.5mm, IPC Medium Density)
footprint SLAB-MSOP-10_L (SOP, 10-Leads, Body 3x3mm, Pitch 0.5mm, IPC High Density)
footprint SLAB-MSOP-10_M (SOP, 10-Leads, Body 3x3mm, Pitch 0.5mm, IPC Low Density)
pins: 1 VDD (power) "Core voltage supply pin", 2 XA (in) "Input pin for external XTAL", 3 XB "Input pin for external XTAL", 4 VC (in) "VCXO control voltage input", 5 P0 (in) "User configurable input pin 0", 6 CLK2 (hiz) "Output clock 2", 7 VDDO (power) "Output supply pin for CLK0, CLK1, and CLK2", 8 GND (power) "Ground", 9 CLK1 (hiz) "Output clock 1", 10 CLK0 (hiz) "Output clock 0"

## Si5350B-A-GU
designator U?
Factory-Programmable Any-Frequency CMOS Clock Generator, 2.5 / 3.3 V, 0.008 to 160 MHz Output, -40 to 85 degC, 20-pin SOP; Manufacturer: Silicon Labs; PartNumber: Si5350B-A-GU; Output Format: LVCMOS; Reference Inputs: 1; VDD: 2.5 V; 3.3 V; Sub-Family: Clock Generators; DatasheetVersion: Rev. 0.9; PackageReference: QSOP-24; PackageDescription: 24-Pin Quarter-Size Small-Outline Package, Body 8.65 x 3.9 mm, Pitch 0.635 mm; Supplier 1: Digi-Key; Supplier Part Number 1: SI5350B-A-GU-ND; Supplier 2: Mouser; Supplier Part Number 2: 634-SI5350B-A-GU; Output Frequency (MHz): 0.008 to 160; Mounting Technology: Surface Mount; Code_JEDEC: MO-147; Code_IPC: J-STD-020; ComponentLink1Description: Manufacturer URL; ComponentLink1URL: http://www.silabs.com/; ComponentLink2Description: Datasheet; ComponentLink2URL: http://www.silabs.com/Support%20Documents/TechnicalDocs/Si5350A.pdf; ComponentLink3Description: Package Specification; ComponentLink3URL: http://www.silabs.com/Support%20Documents/TechnicalDocs/C8051F99x.pdf
footprint SLAB-QSOP-24_N (SOP, 24-Leads, Body 8.65x3.9mm, Pitch 0.635mm, IPC Medium Density)
footprint SLAB-QSOP-24_L (SOP, 24-Leads, Body 8.65x3.9mm, Pitch 0.635mm, IPC High Density)
footprint SLAB-QSOP-24_M (SOP, 24-Leads, Body 8.65x3.9mm, Pitch 0.635mm, IPC Low Density)
pins: 1 CLK5 (hiz) "Output clock 5", 2 VDDOC (power) "Output voltage supply pin for CLK4 and CLK5", 3 CLK4 (hiz) "Output clock 4", 4 VDD (power) "Core voltage supply pin", 5 GND (power) "Ground", 6 XA (in) "Input pin for external XTAL", 7 XB "Input pin for external XTAL", 8 GND (power) "Ground", 9 VC (in) "VCXO control voltage input", 10 P0 (in) "User configurable input pin 0", 11 P1 (in) "User configurable input pin 1", 12 P2 (in) "User configurable input pin 2", 13 P3 (in) "User configurable input pin 3", 14 CLK3 (hiz) "Output clock 3", 15 CLK2 (hiz) "Output clock 2", 16 VDDOB (power) "Output voltage supply pin for CLK2 and CLK3", 17 GND (power) "Ground", 18 VDDOA (power) "Output voltage supply pin for CLK0 and CLK1", 19 GND (power) "Ground", 20 CLK1 (hiz) "Output clock 1", 21 CLK0 (hiz) "Output clock 0", 22 VDDOD (power) "Output voltage supply pin for CLK6 and CLK7", 23 CLK7 (hiz) "Output clock 7", 24 CLK6 (hiz) "Output clock 6"

## Si5350B-B-GM
designator U?
Factory-Programmable Any-Frequency CMOS Clock Generator + VCXO, 2.5 / 3.3 V, 0.008 to 160 MHz Output, -40 to 85 degC, 20-pin QFN; Manufacturer: Silicon Labs; PartNumber: Si5350B-B-GM; Output Format: LVCMOS; Reference Inputs: 1; VDD: 2.5 V; 3.3 V; Sub-Family: Clock Generators; DatasheetVersion: Rev. 0.75; PackageReference: QFN-20; PackageDescription: 20-Pin Quad-Flat No-Leads Package, Body 4 x 4 mm, Pitch 0.5 mm; Output Frequency (MHz): 0.008 to 160; Mounting Technology: Surface Mount; Code_JEDEC: MO-220; Code_IPC: J-STD-020; ComponentLink1Description: Manufacturer URL; ComponentLink1URL: http://www.silabs.com/; ComponentLink2Description: Datasheet; ComponentLink2URL: http://www.silabs.com/Support%20Documents/TechnicalDocs/Si5350B-B.pdf; ComponentLink3Description: Package Specification; ComponentLink3URL: http://www.silabs.com/Support%20Documents/TechnicalDocs/Si5351.pdf
footprint SLAB-QFN-20-2700x2700TP_A_N (QFN, 20-Leads, Body 4x4mm, Pitch 0.5mm, Thermal Pad 2.7x2.7mm, IPC Medium Density)
footprint SLAB-QFN-20-2700x2700TP_A_L (QFN, 20-Leads, Body 4x4mm, Pitch 0.5mm, Thermal Pad 2.7x2.7mm, IPC High Density)
footprint SLAB-QFN-20-2700x2700TP_A_M (QFN, 20-Leads, Body 4x4mm, Pitch 0.5mm, Thermal Pad 2.7x2.7mm, IPC Low Density)
pins: 1 XA (in) "Input pin for external XTAL", 2 XB "Input pin for external XTAL", 3 VC (in) "VCXO control voltage input", 4 P0 (in) "User configurable input pin 0", 5 P1 (in) "User configurable input pin 1", 6 P2 (in) "User configurable input pin 2", 7 P3 (in) "User configurable input pin 3", 8 CLK3 (hiz) "Output clock 3", 9 CLK2 (hiz) "Output clock 2", 10 VDDOB (power) "Output voltage supply pin for CLK2 and CLK3", 11 VDDOA (power) "Output voltage supply pin for CLK0 and CLK1", 12 CLK1 (hiz) "Output clock 1", 13 CLK0 (hiz) "Output clock 0", 14 VDDOD (power) "Output voltage supply pin for CLK6 and CLK7", 15 CLK7 (hiz) "Output clock 7", 16 CLK6 (hiz) "Output clock 6", 17 CLK5 (hiz) "Output clock 5", 18 VDDOC (power) "Output voltage supply pin for CLK4 and CLK5", 19 CLK4 (hiz) "Output clock 4", 20 VDD (power) "Core voltage supply pin", 21 GND (power) "Ground"

## Si5350B-B-GMR
designator U?
Factory-Programmable Any-Frequency CMOS Clock Generator + VCXO, 2.5 / 3.3 V, 0.008 to 160 MHz Output, -40 to 85 degC, 20-pin QFN, Tape and Reel; Manufacturer: Silicon Labs; PartNumber: Si5350B-B-GMR; Output Format: LVCMOS; Phase Jitter (RMS): 100 ps; Reference Inputs: 1; VDD: 2.5 V; 3.3 V; Sub-Family: Clock Generators; DatasheetVersion: Rev. 0.75; PackageReference: QFN-20; PackageDescription: 20-Pin Quad-Flat No-Leads Package, Body 4 x 4 mm, Pitch 0.5 mm; Output Frequency (MHz): 0.008 to 160; Packing: Tape and Reel; Mounting Technology: Surface Mount; Code_JEDEC: MO-220; Code_IPC: J-STD-020; ComponentLink1Description: Manufacturer URL; ComponentLink1URL: http://www.silabs.com/; ComponentLink2Description: Datasheet; ComponentLink2URL: http://www.silabs.com/Support%20Documents/TechnicalDocs/Si5350B-B.pdf; ComponentLink3Description: Package Specification; ComponentLink3URL: http://www.silabs.com/Support%20Documents/TechnicalDocs/Si5351.pdf
footprint SLAB-QFN-20-2700x2700TP_A_N (QFN, 20-Leads, Body 4x4mm, Pitch 0.5mm, Thermal Pad 2.7x2.7mm, IPC Medium Density)
footprint SLAB-QFN-20-2700x2700TP_A_L (QFN, 20-Leads, Body 4x4mm, Pitch 0.5mm, Thermal Pad 2.7x2.7mm, IPC High Density)
footprint SLAB-QFN-20-2700x2700TP_A_M (QFN, 20-Leads, Body 4x4mm, Pitch 0.5mm, Thermal Pad 2.7x2.7mm, IPC Low Density)
pins: 1 XA (in) "Input pin for external XTAL", 2 XB "Input pin for external XTAL", 3 VC (in) "VCXO control voltage input", 4 P0 (in) "User configurable input pin 0", 5 P1 (in) "User configurable input pin 1", 6 P2 (in) "User configurable input pin 2", 7 P3 (in) "User configurable input pin 3", 8 CLK3 (hiz) "Output clock 3", 9 CLK2 (hiz) "Output clock 2", 10 VDDOB (power) "Output voltage supply pin for CLK2 and CLK3", 11 VDDOA (power) "Output voltage supply pin for CLK0 and CLK1", 12 CLK1 (hiz) "Output clock 1", 13 CLK0 (hiz) "Output clock 0", 14 VDDOD (power) "Output voltage supply pin for CLK6 and CLK7", 15 CLK7 (hiz) "Output clock 7", 16 CLK6 (hiz) "Output clock 6", 17 CLK5 (hiz) "Output clock 5", 18 VDDOC (power) "Output voltage supply pin for CLK4 and CLK5", 19 CLK4 (hiz) "Output clock 4", 20 VDD (power) "Core voltage supply pin", 21 GND (power) "Ground"

## Si5350B-B-GT
designator U?
Factory-Programmable Any-Frequency CMOS Clock Generator + VCXO, 2.5 / 3.3 V, 0.008 to 160 MHz Output, -40 to 85 degC, 10-pin SOP; Manufacturer: Silicon Labs; PartNumber: Si5350B-B-GT; Output Format: LVCMOS; Reference Inputs: 1; VDD: 2.5 V; 3.3 V; Sub-Family: Clock Generators; DatasheetVersion: Rev. 0.75; PackageReference: MSOP-10; PackageDescription: 10-Pin Mini Small Outline Package, Body 3 x 3 mm, Pitch 0.5 mm; Output Frequency (MHz): 0.008 to 160; Mounting Technology: Surface Mount; Code_JEDEC: MO-187; Code_IPC: J-STD-020; ComponentLink1Description: Manufacturer URL; ComponentLink1URL: http://www.silabs.com/; ComponentLink2Description: Datasheet; ComponentLink2URL: http://www.silabs.com/Support%20Documents/TechnicalDocs/Si5350B-B.pdf; ComponentLink3Description: Package Specification; ComponentLink3URL: http://www.silabs.com/Support Documents/TechnicalDocs/C8051T60x.pdf
footprint SLAB-MSOP-10_N (SOP, 10-Leads, Body 3x3mm, Pitch 0.5mm, IPC Medium Density)
footprint SLAB-MSOP-10_L (SOP, 10-Leads, Body 3x3mm, Pitch 0.5mm, IPC High Density)
footprint SLAB-MSOP-10_M (SOP, 10-Leads, Body 3x3mm, Pitch 0.5mm, IPC Low Density)
pins: 1 VDD (power) "Core voltage supply pin", 2 XA (in) "Input pin for external XTAL", 3 XB "Input pin for external XTAL", 4 VC (in) "VCXO control voltage input", 5 P0 (in) "User configurable input pin 0", 6 CLK2 (hiz) "Output clock 2", 7 VDDO (power) "Output supply pin for CLK0, CLK1, and CLK2", 8 GND (power) "Ground", 9 CLK1 (hiz) "Output clock 1", 10 CLK0 (hiz) "Output clock 0"

## Si5350B-B-GTR
designator U?
Factory-Programmable Any-Frequency CMOS Clock Generator + VCXO, 2.5 / 3.3 V, 0.008 to 160 MHz Output, -40 to 85 degC, 10-pin SOP, Tape and Reel; Manufacturer: Silicon Labs; PartNumber: Si5350B-B-GTR; Output Format: LVCMOS; Phase Jitter (RMS): 100 ps; Reference Inputs: 1; VDD: 2.5 V; 3.3 V; Sub-Family: Clock Generators; DatasheetVersion: Rev. 0.75; PackageReference: MSOP-10; PackageDescription: 10-Pin Mini Small Outline Package, Body 3 x 3 mm, Pitch 0.5 mm; Output Frequency (MHz): 0.008 to 160; Packing: Tape and Reel; Mounting Technology: Surface Mount; Code_JEDEC: MO-187; Code_IPC: J-STD-020; ComponentLink1Description: Manufacturer URL; ComponentLink1URL: http://www.silabs.com/; ComponentLink2Description: Datasheet; ComponentLink2URL: http://www.silabs.com/Support%20Documents/TechnicalDocs/Si5350B-B.pdf; ComponentLink3Description: Package Specification; ComponentLink3URL: http://www.silabs.com/Support Documents/TechnicalDocs/C8051T60x.pdf
footprint SLAB-MSOP-10_N (SOP, 10-Leads, Body 3x3mm, Pitch 0.5mm, IPC Medium Density)
footprint SLAB-MSOP-10_L (SOP, 10-Leads, Body 3x3mm, Pitch 0.5mm, IPC High Density)
footprint SLAB-MSOP-10_M (SOP, 10-Leads, Body 3x3mm, Pitch 0.5mm, IPC Low Density)
pins: 1 VDD (power) "Core voltage supply pin", 2 XA (in) "Input pin for external XTAL", 3 XB "Input pin for external XTAL", 4 VC (in) "VCXO control voltage input", 5 P0 (in) "User configurable input pin 0", 6 CLK2 (hiz) "Output clock 2", 7 VDDO (power) "Output supply pin for CLK0, CLK1, and CLK2", 8 GND (power) "Ground", 9 CLK1 (hiz) "Output clock 1", 10 CLK0 (hiz) "Output clock 0"

## Si5350C-A-GM
designator U?
Factory-Programmable Any-Frequency CMOS Clock Generator, 2.5 / 3.3 V, 0.008 to 160 MHz Output, -40 to 85 degC, 20-pin QFN; Manufacturer: Silicon Labs; PartNumber: Si5350C-A-GM; Output Format: LVCMOS; Reference Inputs: 2; VDD: 2.5 V; 3.3 V; Sub-Family: Clock Generators; DatasheetVersion: Rev. 0.9; PackageReference: QFN-20; PackageDescription: 20-Pin Quad-Flat No-Leads Package, Body 4 x 4 mm, Pitch 0.5 mm; Supplier 1: Digi-Key; Supplier Part Number 1: SI5350C-A-GM-ND; Supplier 2: Mouser; Supplier Part Number 2: 634-SI5350C-A-GM; Output Frequency (MHz): 0.008 to 160; Mounting Technology: Surface Mount; Code_JEDEC: MO-220; Code_IPC: J-STD-020; ComponentLink1Description: Manufacturer URL; ComponentLink1URL: http://www.silabs.com/; ComponentLink2Description: Datasheet; ComponentLink2URL: http://www.silabs.com/Support%20Documents/TechnicalDocs/Si5350A.pdf; ComponentLink3Description: Package Specification; ComponentLink3URL: http://www.silabs.com/Support%20Documents/TechnicalDocs/Si5351.pdf
footprint SLAB-QFN-20-2700x2700TP_A_N (QFN, 20-Leads, Body 4x4mm, Pitch 0.5mm, Thermal Pad 2.7x2.7mm, IPC Medium Density)
footprint SLAB-QFN-20-2700x2700TP_A_L (QFN, 20-Leads, Body 4x4mm, Pitch 0.5mm, Thermal Pad 2.7x2.7mm, IPC High Density)
footprint SLAB-QFN-20-2700x2700TP_A_M (QFN, 20-Leads, Body 4x4mm, Pitch 0.5mm, Thermal Pad 2.7x2.7mm, IPC Low Density)
pins: 1 XA (in) "Input pin for external XTAL", 2 XB "Input pin for external XTAL", 3 P0 (in) "User configurable input pin 0. See 4.5.5", 4 P1 (in) "User configurable input pin 1. See 4.5.5", 5 P2 (in) "User configurable input pin 2. See 4.5.5", 6 CLKIN (in) "External reference clock input", 7 P3 (in) "User configurable input pin 3. See 4.5.5", 8 CLK3 (hiz) "Output clock 3", 9 CLK2 (hiz) "Output clock 2", 10 VDDOB (power) "Output voltage supply pin for CLK2 and CLK3. See 4.5.2", 11 VDDOA (power) "Output voltage supply pin for CLK0 and CLK1. See 4.5.2", 12 CLK1 (hiz) "Output clock 1", 13 CLK0 (hiz) "Output clock 0", 14 VDDOD (power) "Output voltage supply pin for CLK6 and CLK7. See 4.5.2", 15 CLK7 (hiz) "Output clock 7", 16 CLK6 (hiz) "Output clock 6", 17 CLK5 (hiz) "Output clock 5", 18 VDDOC (power) "Output voltage supply pin for CLK4 and CLK5. See 4.5.2", 19 CLK4 (hiz) "Output clock 4", 20 VDD (power) "Core voltage supply pin. See 4.5.2", 21 GND (power) "Ground"